# EAGLE library part ADAFRUIT_LORA_RADIO (library TT-Breakouts)
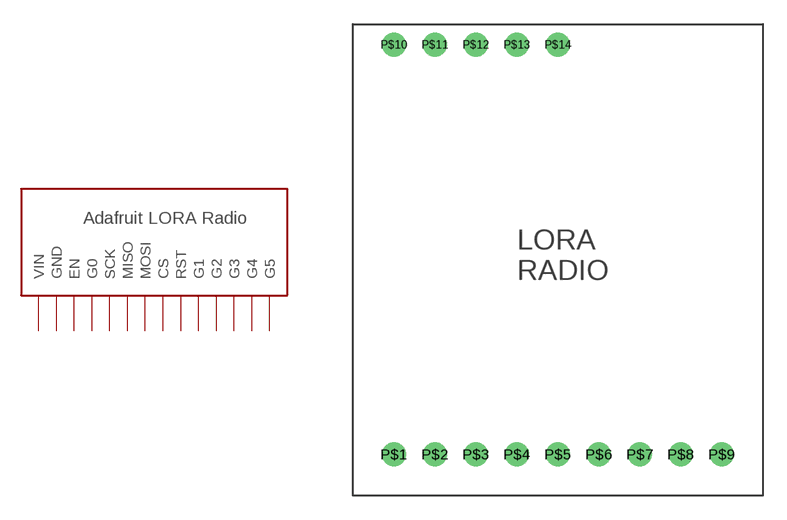
[diagram p0: symbol with the pads of ADAFRUIT_LORA_RADIO; footprint ADAFRUIT_LORA_RADIO]

Designator prefix -

## ADAFRUIT_LORA_RADIO  [ADAFRUIT_LORA_RADIO]
P$1  VIN
P$2  GND
P$3  EN
P$4  G0
P$5  SCK
P$6  MISO
P$7  MOSI
P$8  CS
P$9  RST
P$10  G1
P$11  G2
P$12  G3
P$13  G4
P$14  G5

## Footprint ADAFRUIT_LORA_RADIO (pad centres in mm)
drill 1: P$1 -10.16,-12.065; P$2 -7.62,-12.065; P$3 -5.08,-12.065; P$4 -2.54,-12.065; P$5 0,-12.065; P$6 2.54,-12.065; P$7 5.08,-12.065; P$8 7.62,-12.065; P$9 10.16,-12.065; P$10 -10.16,13.335; P$11 -7.62,13.335; P$12 -5.08,13.335; P$13 -2.54,13.335; P$14 0,13.335